# Altium schematic symbol library IDETEC.SchLib: 205 symbols (part 1 of 3)
Pins are listed as number, name and electrical type; pins without a type are passive.

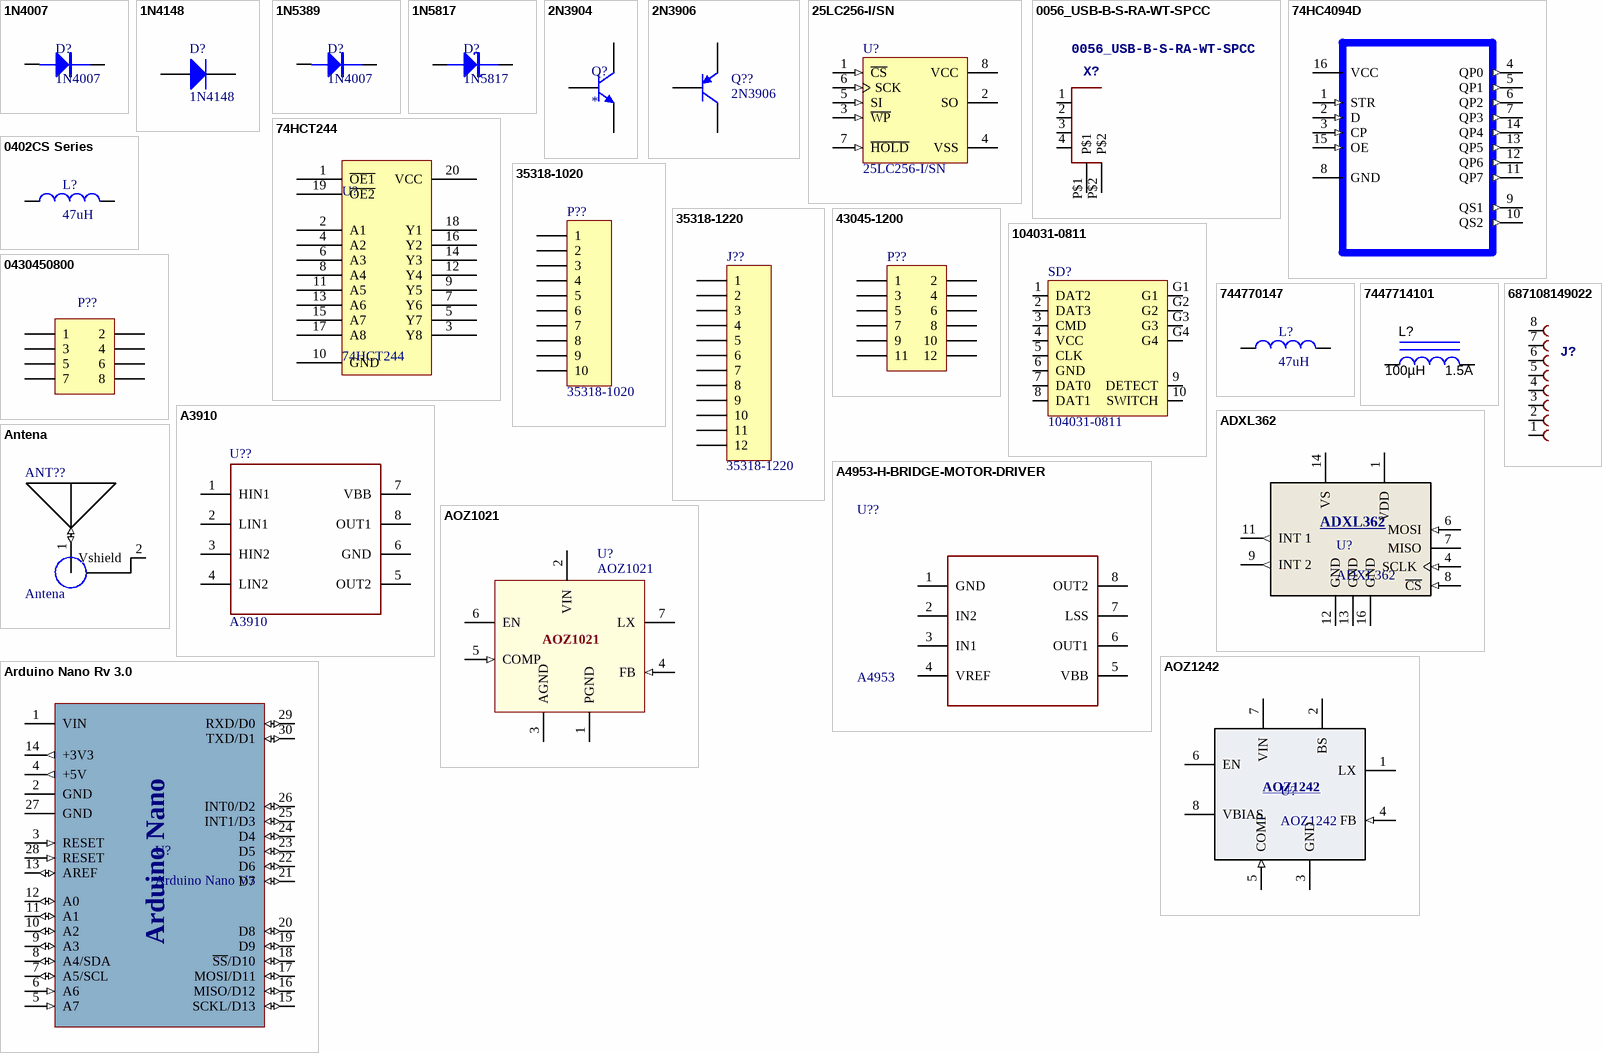
[diagram p0: symbols 1N4007 to Arduino Nano Rv 3.0]

## 1N4007
designator D?
footprint DIODE-0.3
footprint RES-0.5 inch (Axial Device, Thru-Hole; 2 Leads; 0.5 in Pin Spacing)
footprint R6, Axial (DIODE GEN PURP 1KV 6A R6)
pins: 1 A "Anode", 2 K "Cathode"

## 1N4148
designator D?
1.0 Ampere General Purpose Rectifier; Published: 8-Jun-2000; LatestRevisionDate: 17-Jul-2002; LatestRevisionNote: Re-released for DXP Platform.; DatasheetDocument: 1998; PackageDocument: Aug-1999; PackageReference: DO-41; Publisher: Altium Limited; Code_JEDEC: DO-204-AL; ComponentLink1Description: Manufacturer Link; ComponentLink2Description: Pinout Specification; ComponentLink2URL: http://www.fairchildsemi.com/ds/1N%2F1N4001.pdf
footprint LS4148_LS4448 (1N4148)
footprint RES0603 (Chip Resistor, 2-Leads, Body 2,90x1,10mm, IPC Medium Density)
pins: 1 A, 2 K

## 1N5389
designator D?, comment 1N4007
footprint DIODE-0.4A
pins: 1 A "Anode", 2 K "Cathode"

## 1N5817
designator D?
footprint Diode S4 (Molded Capacitor, 2-Leads, Body 3,20x1,60mm, IPC Medium Density)
pins: 1 K "Cathode", 2 A "Anode"

## 2N3904
designator Q?
footprint SOT-23-TT3_N (SOT23, 3-Leads, Body 2.9x1.3mm, Pitch 0.95mm, Lead Span 2.4mm, IPC Medium Density)
pins: 1 B, 2 E, 3 C

## 2N3906
designator Q??
Manufacturer: Micro Commercial Co; Manufacturer Part Number: 2N3906-AP; Transistor Type: PNP; Current - Collector (Ic) (Max): 200mA; Voltage - Collector Emitter Breakdown (Max): 40V; Vce Saturation (Max) @ Ib, Ic: 400mV @ 5mA, 50mA; DC Current Gain (hFE) (Min) @ Ic, Vce: 100 @ 10mA, 1V; Power - Max: 600mW; Frequency - Transition: 250MHz; Supplier 1: Digi-Key; RoHS: RoHS Compliant; Category: Discrete Semiconductor Products; Stock 1: 54000; Pricing 1: 2000=0.0306, 6000=0.0276, 10000=0.024, 50000=0.0192, 100000=0.018, 200000=0.01596 (USD); Packaging: Tape & Box (TB); Current - Collector Cutoff (Max): -; Mounting Type: Through Hole; Package / Case: TO-226-3, TO-92-3 (TO-226AA) Formed Leads; Supplier Device Package: TO-92; ComponentLink1URL: http://www.mccsemi.com/up_pdf/2N3906(TO-92).pdf; ComponentLink1Description: http://www.mccsemi.com/up_pdf/2N3906(TO-92).pdf; Supplier Part Number 1: 2N3906-APTB-ND
footprint SOT-23-TT3_N (SOT23, 3-Leads, Body 2.9x1.3mm, Pitch 0.95mm, Lead Span 2.4mm, IPC Medium Density)
pins: 1 B, 2 E, 3 C

## 25LC256-I/SN
designator U?
256K SPI Bus Serial EEPROM, 8-Pin SOIC, Industrial Temperature; Value: 579-25LC256-I/SN; Published: 29-Jan-2009; DatasheetVersion: revF, May-2007; PackageVersion: revAW, Oct-2008; PackageReference: SOIC-SN8; Publisher: Altium Limited; PackageDescription: 8-Lead Plastic Small Outline (SN) - Narrow, 3.90mm Body [SOIC]; Code_JEDEC: MS-012; Code_IPC: SOIC127P600-8; ComponentLink1Description: Manufacturer Link; ComponentLink1URL: http://www.microchip.com; ComponentLink2Description: Datasheet; ComponentLink2URL: http://ww1.microchip.com/downloads/en/DeviceDoc/21822F.pdf; ComponentLink3Description: Packaging Specification; ComponentLink3URL: http://ww1.microchip.com/downloads/en/PackagingSpec/00049AW.pdf
footprint SOIC-8 (SOIC, 8-Leads, Body 4,90x3,90mm, Pitch 1,27mm, IPC Medium Density)
pins: 1 ~{CS} (in), 2 SO (hiz), 3 ~{WP} (in), 4 VSS (power), 5 SI (in), 6 SCK (in), 7 ~{HOLD} (in), 8 VCC (power)

## 0056_USB-B-S-RA-WT-SPCC
designator X?
USB - B
footprint USB-B (USB TypeB)
pins: 1, 2, 3, 4, P$1, P$2

## 74HC4094D
designator U?  (value not drawn)
Ic Mos 74hc4094/So/74hc4094d Philips So; MF: NXP Semiconductors; Price: 0.36 USD; Package: SOIC-16 NXP Semiconductors; Availability: Good; MP: 74HC4094D; Value: *
footprint PDIP300-P16 (DIP, 16-Leads, Row Spacing 7.62mm, Pitch 2.54mm, Body 19.2x6.6mm)
pins: 1 STR (in), 2 D (in), 3 CP (in), 4 QP0 (out), 5 QP1 (out), 6 QP2 (out), 7 QP3 (out), 8 GND, 9 QS1 (out), 10 QS2 (out), 11 QP7 (out), 12 QP6 (out), 13 QP5 (out), 14 QP4 (out), 15 OE (in), 16 VCC (power)

## 74HCT244
designator U?
Transistores Darlington TRANSISTOR ARRAYS; 74HCT244: 74HCT244; Value: 74HCT244
footprint PwrDIP20 (DIP; 20 Leads; Row Spacing 7.62 mm; Pitch 2.54 mm)
pins: 1 ~{OE1} (power) "GND", 2 A1, 3 Y8, 4 A2, 5 Y7, 6 A3, 7 Y6, 8 A4, 9 Y5, 10 GND (power), 11 A5, 12 Y4, 13 A6, 14 Y3, 15 A7, 16 Y2, 17 A8, 18 Y1, 19 ~{OE2}, 20 VCC

## 0402CS Series
designator L?, comment 47uH
Inductor; Size 1.19×0.64×0.66mm, ±10, 5, 2% Tolerance, 1nH - 68nH, 1360 - 100mA; Value: 47uH
footprint MI0805K400R-10 - duplicate (Suppressors & Ferrite)
footprint CD54-181uH (Precision Wire Wound Inductor, 2-Leads, CD54-XXX)
footprint CDRH6D38T125N220
footprint 652-SDR0805-470KL (SDR0805-470KL)
footprint 74279224271 (INDUCTOR 270R)
footprint SRR1208-221KL
footprint NR6028T4R7M (Precision Wire Wound Inductor 4.7uH, 2-Leads, Body 6,10x6,10mm, IPC Medium Density)
pins: 1, 2

## 35318-1020
designator P??
Alojamientos de cables y cabecera MINIFIT HDER WO EARS 10CK; LatestRevisionDate: 17-Jul-2002; LatestRevisionNote: Re-released for DXP Platform.; Publisher: Altium Limited
footprint 35318-1020 (4.20mm Pitch Mini-Fit® Header, Dual Row, Right Angle, 12 Circuits, PA Polyamide (Nylon) 6/6 94V-2, White)
footprint 35318-0620 (4.20mm Pitch Mini-Fit® Header, Dual Row, Right Angle, 12 Circuits, PA Polyamide (Nylon) 6/6 94V-2, White)
pins: 1, 2, 3, 4, 5, 6, 7, 8, 9, 10

## 35318-1220
designator J??
4.20mm Pitch Mini-Fit® Header, Dual Row, Right Angle, 12 Circuits; LatestRevisionDate: 17-Jul-2002; LatestRevisionNote: Re-released for DXP Platform.; Publisher: Altium Limited
signal-integrity model Connector
footprint 35318-1220 (4.20mm Pitch Mini-Fit® Header, Dual Row, Right Angle, 12 Circuits, PA Polyamide (Nylon) 6/6 94V-2, White)
pins: 1, 2, 3, 4, 5, 6, 7, 8, 9, 10, 11, 12

## 43045-1200
designator P??  (value not drawn)
Alojamientos de cables y cabecera 12 CKT R/A HEADER; LatestRevisionDate: 17-Jul-2002; LatestRevisionNote: Re-released for DXP Platform.; Publisher: Altium Limited
footprint 43045-1200 (Alojamientos de cables y cabecera 12 CKT R/A HEADER)
pins: 1, 2, 3, 4, 5, 6, 7, 8, 9, 10, 11, 12

## 104031-0811
designator SD?
CONN MICRO SD CARD PUSH-PULL R/A; Manufacturer: Molex, LLC; Manufacturer Part Number: 1040310811; Card Type: Secure Digital - microSD™; Number of Positions: 10 (8 + 2); Connector Type: Connector; Insertion, Removal Method: Push In, Pull Out; 104031-0811: 104031-0811; Supplier 1: Digi-Key; Supplier Part Number 1: WM6357TR-ND; RoHS: RoHS Compliant; Category: Connectors, Interconnects; Stock 1: 10000; Pricing 1: 2000=0.93714, 4000=0.90482, 6000=0.85958, 10000=0.84019 (USD); Packaging: Tape & Reel (TR); Ejector Side: -; Mounting Type: Surface Mount, Right Angle; Features: -; Height Above Board: 0.056" (1.42mm); Mounting Feature: Normal, Standard - Top; Contact Finish: Gold; Contact Finish Thickness: 8µin (0.20µm); ComponentLink1URL: http://www.molex.com/pdm_docs/sd/1040310811_sd.pdf; ComponentLink1Description: http://www.molex.com/pdm_docs/sd/1040310811_sd.pdf
footprint 104031-0811
pins: 1 DAT2, 2 DAT3, 3 CMD, 4 VCC, 5 CLK, 6 GND, 7 DAT0, 8 DAT1, 9 DETECT, 10 SWITCH, G1, G2, G3, G4

## 0430450800
designator P??  (value not drawn)
CONN HEADER 8POS 3MM RT ANG TIN; Manufacturer: Molex, LLC; Manufacturer Part Number: 0430450800; Pitch - Mating: 0.118" (3.00mm); Number of Positions: 8; Number of Positions Loaded: All; Style: Board to Cable/Wire; Shrouding: Shrouded - 4 Wall; Contact Length - Post: 0.125" (3.18mm); Material Flammability Rating: UL94 V-0; Supplier 1: Digi-Key; RoHS: RoHS Compliant; Category: Connectors, Interconnects; Stock 1: 9629; Pricing 1: 1=2.09, 10=1.896, 100=1.6252, 500=1.35432, 1000=1.16085, 5000=1.02929 (USD); Packaging: Tray; Part Status: Active; Connector Type: Header; Contact Type: Male Pin; Number of Rows: 2; Row Spacing - Mating: 0.118" (3.00mm); Mounting Type: Through Hole, Right Angle; Termination: Solder; Fastening Type: Locking Ramp; Contact Length - Mating: -; Overall Contact Length: -; Insulation Height: 0.290" (7.37mm); Contact Shape: Square; Contact Finish - Mating: Tin; Contact Finish Thickness - Mating: 100µin (2.54µm); Contact Finish - Post: Tin; Contact Material: Brass; Insulation Material: Liquid Crystal Polymer (LCP), Glass Filled; Features: Board Lock; Operating Temperature: -; Ingress Protection: -; Insulation Color: Black; Current Rating: -; Voltage Rating: -; Mated Stacking Heights: -; Contact Finish Thickness - Post: -; Applications: General Purpose, Medical, Military, Telecommunications; ComponentLink1URL: http://www.molex.com/pdm_docs/sd/430450800_sd.pdf; ComponentLink1Description: http://www.molex.com/pdm_docs/sd/430450800_sd.pdf; Supplier 2: Digi-Key; Supplier Part Number 2: WM1816-ND
footprint 43045-0800 (Alojamientos de cables y cabecera 8 CKT R/A HEADER)
pins: 1, 2, 3, 4, 5, 6, 7, 8

## 744770147
designator L?, comment 47uH
Inductores fijos WE-PD 1280 47uH 2.7A .1Ohm; Value: 47uH
footprint 744770147 (Inductores fijos WE-PD 1280 47uH 2.7A .1Ohm)
pins: 1, 2

## 7447714101
designator L?  ValueDisplayed: 100µH  Value2: 1.5A  (hidden comment: 7447714101)
Inductor, Shielded Drum Core, Ferrite, 100 µH, 1.5 A, 0.165 ohm, SMD; Manufacturer: Wurth Elektronik; Value: 100uH; Ind_H: 100.0E-6; Imax_A: 1.5; Irms: 1.5A @ 40C rise; Isat: 1.75A @ 10% inductance drop; DCR_ohm: 0.165; AEC Category: Q200; SizeAreaWB_mm2: 144; SizeArea_mm2: 100; SizeX_mm: 10; SizeZ_mm: 5; SymbolVersion: 2008-07-23; CompType: Inductor; PartNumber: 7447714101; Value1: 0.165 ohm; Technology: Shielded Drum Core; MountType: SMT; Material: Ferrite; PackageReference: SMD; Published: 2008-06-26; Publisher: Texas Instruments; LatestRevisionDate: 2016-10-28; ComponentLink1Description: Datasheet link; ComponentLink1URL: http://katalog.we-online.de/kataloge/eisos/media/pdf/7447714101.pdf; RoHS: Y; Supplier 1: Digi-Key; Supplier Part Number 1: 732-2989-1-ND; AEC Qualified: ?; SizeY_mm: 10
signal-integrity model Inductor
simulation model Inductor
footprint WE-PD_1050
pins: 1, 2

## 687108149022
designator J?, comment WR-FPC 0.50mm SMT Horiz. Bot. Contact Hinge type WR-FPC 0.50mm 8 pins Hinge type SMT Horizontal Bottom Contact ;=>Code : Con_FPC_ZIF_0.50_6871xx149022_687108149022       Details see: http://katalog.we-online.de/em/datasheet/6871xx149022.pdf   Created 2014-10-08, Karrer Zheng 2014 (C) Wurth Elektronik  (value not drawn)
MF: Wurth Electronics; Price: None; Availability: Unavailable; Package: None; MP: 687108149022
footprint 687108149022
pins: 1 8, 2 7, 3 6, 4 5, 5 4, 6 3, 7 2, 8 1

## A3910
designator U??
Dual Half Bridge Motor Driver 500mA; Manufacturer: Allegro MicroSystems, LLC; Manufacturer Part Number: A3910EEETR-T; Motor Type - AC, DC: Brushed DC; Function: Driver - Fully Integrated, Control and Power Stage; Output Configuration: Half Bridge (2); Interface: Parallel; Voltage - Supply: 2.5 V ~ 5.5 V; Supplier 1: Digi-Key; Supplier Part Number 1: 620-1495-2-ND; RoHS: RoHS Compliant; Category: Integrated Circuits (ICs); Stock 1: 30000; Pricing 1: 3000=0.2465, 6000=0.2295, 15000=0.221, 30000=0.2125, 75000=0.2091, 150000=0.204 (USD); Motor Type - Stepper: -; Technology: Power MOSFET; Step Resolution: -; Applications: Battery Powered; Current - Output: 500mA; Voltage - Load: 2.5 V ~ 5.5 V; Operating Temperature: -40°C ~ 150°C (TJ); Mounting Type: Surface Mount; Package / Case: 8-UFDFN Exposed Pad; Supplier Device Package: 8-DFN (2x2); ComponentLink1URL: http://www.allegromicro.com/~/media/Files/Datasheets/A3910-Datasheet.pdf; ComponentLink1Description: http://www.allegromicro.com/~/media/Files/Datasheets/A3910-Datasheet.pdf
footprint DFN8 (DFN-8 2X2 mm)
pins: 1 HIN1, 2 LIN1, 3 HIN2, 4 LIN2, 5 OUT2, 6 GND, 7 VBB, 8 OUT1

## A4953-H-BRIDGE-MOTOR-DRIVER
designator U??, comment A4953
IC MOTOR DRIVER PAR 8SOIC; Manufacturer: Allegro MicroSystems, LLC; Manufacturer Part Number: A4953ELJTR-T; Motor Type - AC, DC: Brushed DC; Function: Driver - Fully Integrated, Control and Power Stage; Output Configuration: Half Bridge (2); Interface: Parallel; Current - Output: 2A; Voltage - Supply: 8 V ~ 40 V; Supplier 1: Digi-Key; Supplier Part Number 1: 620-1428-1-ND; RoHS: RoHS Compliant; Category: Integrated Circuits (ICs); Stock 1: 3966; Pricing 1: 1=1.85, 10=1.665, 100=1.3359, 500=1.098, 1000=0.9089 (USD); Motor Type - Stepper: -; Technology: DMOS; Step Resolution: -; Applications: General Purpose; Voltage - Load: 8 V ~ 40 V; Operating Temperature: -40°C ~ 150°C (TJ); Mounting Type: Surface Mount; Package / Case: 8-SOIC (0.154", 3.90mm Width) Exposed Pad; Supplier Device Package: 8-SOIC-EP; ComponentLink1URL: http://www.allegromicro.com/~/media/Files/Datasheets/A4952-3-Datasheet.pdf; ComponentLink1Description: http://www.allegromicro.com/~/media/Files/Datasheets/A4952-3-Datasheet.pdf
footprint A4953 (SOIC-8 With Termal Pad)
pins: 1 GND, 2 IN2, 3 IN1, 4 VREF, 5 VBB, 6 OUT1, 7 LSS, 8 OUT2

## ADXL362
designator U?
Micropower, 3-Axis, ±2 g/±4 g/±8 g  Digital Output MEMS Accelerometer; ComponentLink1URL: http://www.aosmd.com/pdfs/datasheet/aoz1021ai.pdf; ComponentLink2URL: http://www.digikey.com/product-detail/es/AOZ1021AI/785-1155-1-ND/1856090
footprint LGA-16
pins: 1 VDD, 2 NC hidden, 3 R hidden, 4 SCLK (in), 5 R hidden, 6 MOSI (in), 7 MISO, 8 ~{CS} (in), 9 INT 2 (out), 10 R (in) hidden, 11 INT 1 (out), 12 GND, 13 GND, 14 VS, 15 NC hidden, 16 GND

## Antena
designator ANT??
SMA  Ohm End Launch Jack Receptacle -  Round Contact; ComponentLink1URL: https://emersonconnectivity.com/; ComponentLink1Description: Manufacturer Link; ComponentLink2URL: https://emersonconnectivity.com/OA_MEDIA/specs/pi-142-0701-801.pdf; ComponentLink2Description: Datasheet; Mouser Part No.: 530-142-0701-801 / 530-142-0701-806; Digikey Part No.: J502-ND / J716-ND
footprint ANTENA GSM - duplicate (ANTENA GSM)
footprint Antena GSM (antena GSM)
footprint Conector SMA002-L (Antena RF)
footprint ANT-433-HESM (ANT 433MHz)
pins: 1 ANT (io), 2 Vshield

## AOZ1021
designator U?
3A Synchronous Buck Regulator; ComponentLink1URL: http://www.aosmd.com/pdfs/datasheet/aoz1021ai.pdf; ComponentLink2URL: http://www.digikey.com/product-detail/es/AOZ1021AI/785-1155-1-ND/1856090
footprint SO-8L (SOIC, 8-Leads, Body 4,90x3,90mm, Pitch 1,27mm, IPC Medium Density); pin to pad 7>7+8
pins: 1 PGND, 2 VIN, 3 AGND, 4 FB (in), 5 COMP (in), 6 EN (power), 7 LX

## AOZ1242
designator U?
IC REG BUCK ADJ 3A; ComponentLink1URL: http://www.aosmd.com/pdfs/datasheet/aoz1021ai.pdf; ComponentLink2URL: http://www.digikey.com/product-detail/es/AOZ1021AI/785-1155-1-ND/1856090
footprint SO-8L (SOIC, 8-Leads, Body 4,90x3,90mm, Pitch 1,27mm, IPC Medium Density)
pins: 1 LX, 2 BS, 3 GND, 4 FB (in), 5 COMP (in), 6 EN (power), 7 VIN, 8 VBIAS (power)

## Arduino Nano Rv 3.0
designator U?, comment Arduino Nano V3
footprint Arduino Nano V3.0 (Arduino Nano R 3.0)
pins: 1 VIN (power), 2 GND, 3 RESET (in), 4 +5V (out), 5 A7 (in), 6 A6 (in), 7 A5/SCL (io), 8 A4/SDA (io), 9 A3 (io), 10 A2 (io), 11 A1 (io), 12 A0 (io), 13 AREF (io), 14 +3V3 (out), 15 SCKL/D13 (io), 16 MISO/D12 (io), 17 MOSI/D11 (io), 18 ~{SS}/D10 (io), 19 D9 (io), 20 D8 (io), 21 D7 (io), 22 D6 (io), 23 D5 (io), 24 D4 (io), 25 INT1/D3 (io), 26 INT0/D2 (io), 27 GND, 28 RESET (in), 29 RXD/D0 (io), 30 TXD/D1 (io)
text: Arduino Nano

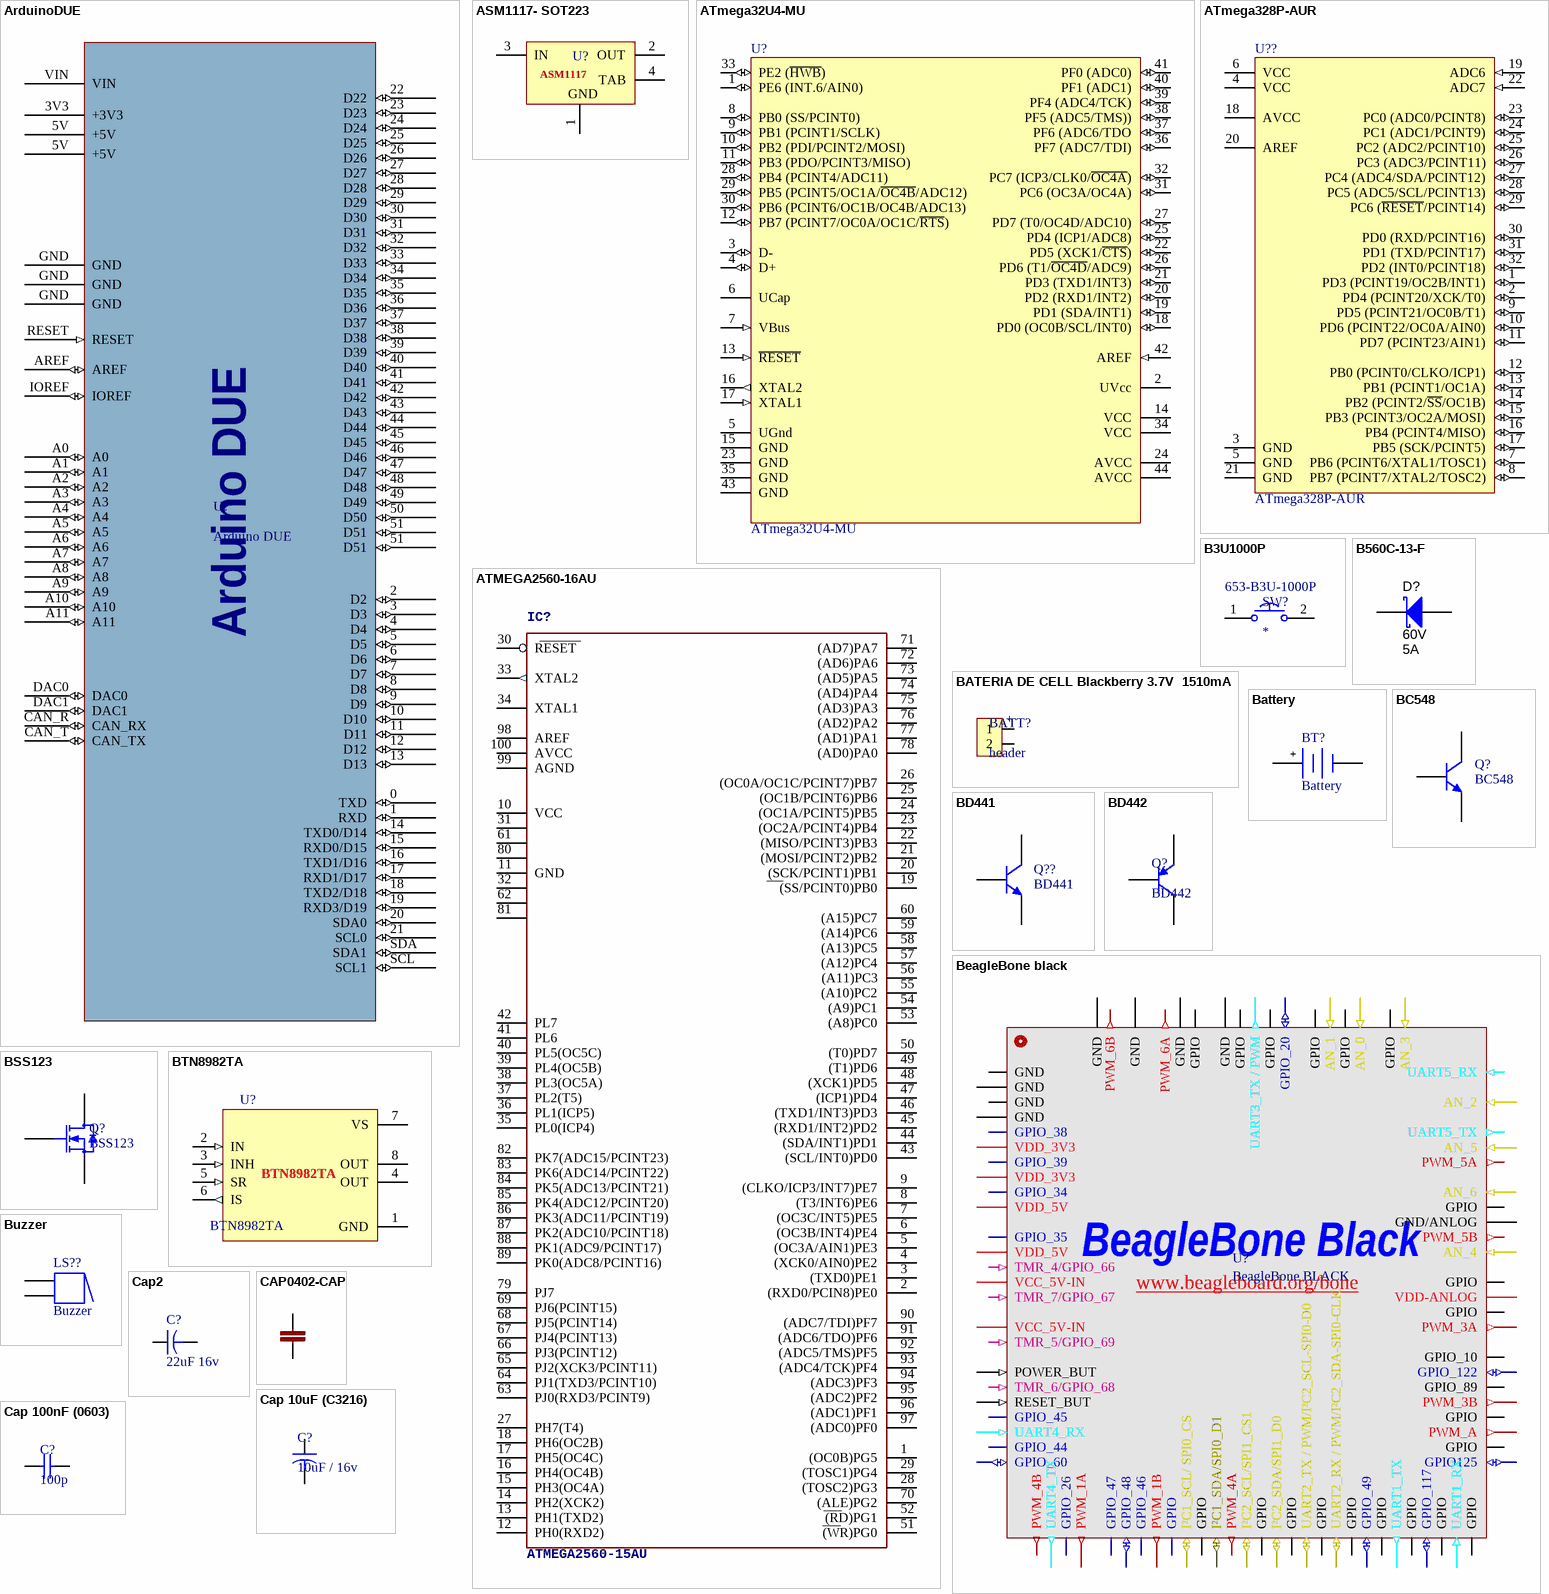
[diagram p1: symbols ArduinoDUE to Cap 100nF (0603)]

## ArduinoDUE
designator U?, comment Arduino DUE
footprint ArduinoDue-Mega (Tarjeta ArduinoDue/Mega)
pins: 0 TXD (io), 1 RXD (io), 2 D2 (io), 3 D3 (io), 3V3 +3V3 (power), 4 D4 (io), 5 D5 (io), 5V +5V (power), 5V +5V (power), 6 D6 (io), 7 D7 (io), 8 D8 (io), 9 D9 (io), 10 D10 (io), 11 D11 (io), 12 D12 (io), 13 D13 (io), 14 TXD0/D14 (io), 15 RXD0/D15 (io), 16 TXD1/D16 (io), 17 RXD1/D17 (io), 18 TXD2/D18 (io), 19 RXD3/D19 (io), 20 SDA0 (io), 21 SCL0 (io), 22 D22 (io), 23 D23 (io), 24 D24 (io), 25 D25 (io), 26 D26 (io), 27 D27 (io), 28 D28 (io), 29 D29 (io), 30 D30 (io), 31 D31 (io), 32 D32 (io), 33 D33 (io), 34 D34 (io), 35 D35 (io), 36 D36 (io), 37 D37 (io), 38 D38 (io), 39 D39 (io), 40 D40 (io), 41 D41 (io), 42 D42 (io), 43 D43 (io), 44 D44 (io), 45 D45 (io), 46 D46 (io), 47 D47 (io), 48 D48 (io), 49 D49 (io), 50 D50 (io), 51 D51 (io), 51 D51 (io), A0 (io), A1 (io), A2 (io), A3 (io), A4 (io), A5 (io), A6 (io), A7 (io), A8 (io), A9 (io), A10 (io), A11 (io), AREF (io), CAN_R CAN_RX (io), CAN_T CAN_TX (io), DAC0 (io), DAC1 (io), GND, GND, GND, IOREF (io), RESET (in), SCL SCL1 (io), SDA SDA1 (io), VIN (power)

## ASM1117- SOT223
designator U?, comment ASM1117  (value not drawn)
l7805 SOT223
footprint SOT230P700X180-4N (SOT223, 4-Leads, Body 6,50x7,00mm (avg), Pitch 2,30mm, IPC Medium Density)
pins: 1 GND (power), 2 OUT (power), 3 IN (power), 4 TAB

## ATmega32U4-MU
designator U?
8-bit AVR Microcontroller, 2.7-5.5V, 32KB Flash, 2.5KB EEPROM, 1KB SRAM, USB Controller, 44-pin QFN, Industrial Grade (-40°C to 85°C); Published: 1-Apr-2010; DatasheetVersion: revD, Jan-2009; PackageVersion: revF, Jul-2007; PackageReference: 44PW; Publisher: Altium Limited; PackageDescription: 44-Pin Quad Flat No-Lead Package, 7 x 7 mm Body, 0.5 mm Pitch (QFN); Supplier 1: Digi-Key; Supplier Part Number 1: ATMEGA32U4-MU-ND; Supplier 2: Mouser; Supplier Part Number 2: 556-ATMEGA32U4-MU; Code_JEDEC: MO-220-VKKD-1; ComponentLink1Description: Manufacturer Link; ComponentLink1URL: http://www.atmel.com/products/avr/default.asp?; ComponentLink2Description: ATmega16U4/32U4 Datasheet; ComponentLink2URL: http://www.atmel.com/dyn/resources/prod_documents/doc7766.pdf; ComponentLink3Description: ATmega16U4 ATmega32U4 Summary; ComponentLink3URL: http://www.atmel.com/dyn/resources/prod_documents/7766S.pdf; ComponentLink4Description: Atmel.com Home; ComponentLink4URL: http://www.atmel.com
footprint TQFP44-PAD
pins: 1 PE6 (INT.6/AIN0) (io), 2 UVcc (power), 3 D- (io), 4 D+ (io), 5 UGnd (power), 6 UCap, 7 VBus (in), 8 PB0 (SS/PCINT0) (io), 9 PB1 (PCINT1/SCLK) (io), 10 PB2 (PDI/PCINT2/MOSI) (io), 11 PB3 (PDO/PCINT3/MISO) (io), 12 PB7 (PCINT7/OC0A/OC1C/~{RTS}) (io), 13 ~{RESET} (in), 14 VCC (power), 15 GND (power), 16 XTAL2 (out), 17 XTAL1 (in), 18 PD0 (OC0B/SCL/INT0) (io), 19 PD1 (SDA/INT1) (io), 20 PD2 (RXD1/INT2) (io), 21 PD3 (TXD1/INT3) (io), 22 PD5 (XCK1/~{CTS}) (io), 23 GND (power), 24 AVCC (power), 25 PD4 (ICP1/ADC8) (io), 26 PD6 (T1/~{OC4D}/ADC9) (io), 27 PD7 (T0/OC4D/ADC10) (io), 28 PB4 (PCINT4/ADC11) (io), 29 PB5 (PCINT5/OC1A/~{OC4B}/ADC12) (io), 30 PB6 (PCINT6/OC1B/OC4B/ADC13) (io), 31 PC6 (OC3A/OC4A) (io), 32 PC7 (ICP3/CLK0/~{OC4A}) (io), 33 PE2 (~{HWB}) (io), 34 VCC (power), 35 GND (power), 36 PF7 (ADC7/TDI) (io), 37 PF6 (ADC6/TDO (io), 38 PF5 (ADC5/TMS)) (io), 39 PF4 (ADC4/TCK) (io), 40 PF1 (ADC1) (io), 41 PF0 (ADC0) (io), 42 AREF (in), 43 GND (power), 44 AVCC (power)

## ATmega328P-AUR
designator U??
8-bit AVR Microcontroller, 32KB Flash, 1KB EEPROM, 2KB SRAM, 32-pin TQFP, Industrial Grade (-40°C to 85°C); Published: 1-Apr-2010; DatasheetVersion: revA, Jan-2010; PackageVersion: revB, Oct-2001; PackageReference: 32A; Publisher: Altium Limited; PackageDescription: 32-Lead, 7x7x1.0 mm Body, 0.8mm Lead Pitch, Thin Profile Plastic Quad Flat Package (TQFP); Supplier 1: Digi-Key; Supplier Part Number 1: ATMEGA328P-AUR-ND; Supplier 2: Mouser; Supplier Part Number 2: 556-ATMEGA328P-AUR; Code_JEDEC: MS-026-ABA; ComponentLink1Description: Manufacturer Link; ComponentLink1URL: http://www.atmel.com/products/avr/default.asp?; ComponentLink2Description: ATmega48A/48PA/88A/88PA/168A/168PA/328/328P Datasheet; ComponentLink2URL: http://www.atmel.com/dyn/resources/prod_documents/8271.pdf; ComponentLink3Description: ATmega48A/48PA/88A/88PA/168A/168PA/328/328P Summary; ComponentLink3URL: http://www.atmel.com/dyn/resources/prod_documents/8271S.pdf; ComponentLink4Description: Atmel.com Home; ComponentLink4URL: http://www.atmel.com
footprint TQFP-32 (32-Pin Thin Quad Flat Pack 0.8 mm Pitch, IPC Medium Density)
pins: 1 PD3 (PCINT19/OC2B/INT1) (io), 2 PD4 (PCINT20/XCK/T0) (io), 3 GND (power), 4 VCC (power), 5 GND (power), 6 VCC (power), 7 PB6 (PCINT6/XTAL1/TOSC1) (io), 8 PB7 (PCINT7/XTAL2/TOSC2) (io), 9 PD5 (PCINT21/OC0B/T1) (io), 10 PD6 (PCINT22/OC0A/AIN0) (io), 11 PD7 (PCINT23/AIN1) (io), 12 PB0 (PCINT0/CLKO/ICP1) (io), 13 PB1 (PCINT1/OC1A) (io), 14 PB2 (PCINT2/~{SS}/OC1B) (io), 15 PB3 (PCINT3/OC2A/MOSI) (io), 16 PB4 (PCINT4/MISO) (io), 17 PB5 (SCK/PCINT5) (io), 18 AVCC (power), 19 ADC6 (in), 20 AREF, 21 GND (power), 22 ADC7 (in), 23 PC0 (ADC0/PCINT8) (io), 24 PC1 (ADC1/PCINT9) (io), 25 PC2 (ADC2/PCINT10) (io), 26 PC3 (ADC3/PCINT11) (io), 27 PC4 (ADC4/SDA/PCINT12) (io), 28 PC5 (ADC5/SCL/PCINT13) (io), 29 PC6 (~{RESET}/PCINT14) (io), 30 PD0 (RXD/PCINT16) (io), 31 PD1 (TXD/PCINT17) (io), 32 PD2 (INT0/PCINT18) (io)

## ATMEGA2560-16AU
designator IC?, comment ATMEGA2560-15AU
8-bit Microcontroller with 256K Bytes In-System Programmable Flash - ATMEGA2560-16AU
footprint TQFP100
pins: 1 (OC0B)PG5, 2 (RXD0/PCIN8)PE0, 3 (TXD0)PE1, 4 (XCK0/AIN0)PE2, 5 (OC3A/AIN1)PE3, 6 (OC3B/INT4)PE4, 7 (OC3C/INT5)PE5, 8 (T3/INT6)PE6, 9 (CLKO/ICP3/INT7)PE7, 10 VCC (power), 11 GND (power), 12 PH0(RXD2), 13 PH1(TXD2), 14 PH2(XCK2), 15 PH3(OC4A), 16 PH4(OC4B), 17 PH5(OC4C), 18 PH6(OC2B), 19 (SS/PCINT0)PB0, 20 (SCK/PCINT1)PB1, 21 (MOSI/PCINT2)PB2, 22 (MISO/PCINT3)PB3, 23 (OC2A/PCINT4)PB4, 24 (OC1A/PCINT5)PB5, 25 (OC1B/PCINT6)PB6, 26 (OC0A/OC1C/PCINT7)PB7, 27 PH7(T4), 28 (TOSC2)PG3, 29 (TOSC1)PG4, 30 RESET, 31 VCC1 (power), 32 GND1 (power), 33 XTAL2 (out), 34 XTAL1, 35 PL0(ICP4), 36 PL1(ICP5), 37 PL2(T5), 38 PL3(OC5A), 39 PL4(OC5B), 40 PL5(OC5C), 41 PL6, 42 PL7, 43 (SCL/INT0)PD0, 44 (SDA/INT1)PD1, 45 (RXD1/INT2)PD2, 46 (TXD1/INT3)PD3, 47 (ICP1)PD4, 48 (XCK1)PD5, 49 (T1)PD6, 50 (T0)PD7, 51 (WR)PG0, 52 (RD)PG1, 53 (A8)PC0, 54 (A9)PC1, 55 (A10)PC2, 56 (A11)PC3, 57 (A12)PC4, 58 (A13)PC5, 59 (A14)PC6, 60 (A15)PC7, 61 VCC2 (power), 62 GND2 (power), 63 PJ0(RXD3/PCINT9), 64 PJ1(TXD3/PCINT10), 65 PJ2(XCK3/PCINT11), 66 PJ3(PCINT12), 67 PJ4(PCINT13), 68 PJ5(PCINT14), 69 PJ6(PCINT15), 70 (ALE)PG2, 71 (AD7)PA7, 72 (AD6)PA6, 73 (AD5)PA5, 74 (AD4)PA4, 75 (AD3)PA3, 76 (AD2)PA2, 77 (AD1)PA1, 78 (AD0)PA0, 79 PJ7, 80 VCC3 (power), 81 GND3 (power), 82 PK7(ADC15/PCINT23), 83 PK6(ADC14/PCINT22), 84 PK5(ADC13/PCINT21), 85 PK4(ADC12/PCINT20), 86 PK3(ADC11/PCINT19), 87 PK2(ADC10/PCINT18), 88 PK1(ADC9/PCINT17), 89 PK0(ADC8/PCINT16), 90 (ADC7/TDI)PF7, 91 (ADC6/TDO)PF6, 92 (ADC5/TMS)PF5, 93 (ADC4/TCK)PF4, 94 (ADC3)PF3, 95 (ADC2)PF2, 96 (ADC1)PF1, 97 (ADC0)PF0, 98 AREF, 99 AGND (power), 100 AVCC (power)

## B3U1000P
designator SW?  Supplier Part Number 2: 653-B3U-1000P
Ultra-small Tactile Switch; Supplier 1: Newark; Supplier 2: Mouser; Supplier 3: Digi-Key; Supplier Part Number 1: 30M2152; Supplier Part Number 3: SW1020CT-ND
footprint SW_MOUSER
pins: 1, 2

## B560C-13-F
designator D?, comment value 60V  Value1: 5A  (hidden comment: PDS560-13)
Diode, Schottky, 60 V, 5 A, SMC; Manufacturer: Diodes Inc.; U/M: EA; Vf_V: 0.7; Value2: 0.7V; Io_A: 5; Vr_V: 60; TJmax_C: 125; RJC_CperW: 10; AEC Category: Q101; SizeAreaWB_mm2: 83.2686; SizeArea_mm2: 50.5686; SizeX_mm: 8.13; SizeY_mm: 6.22; SizeZ_mm: 2.6; CompType: Diode; SymbolVersion: 2008-12-08; PartNumber: PDS560-13; PackageReference: SMC; MountType: SMT; Type: Schottky; RoHS: Y; Published: 2008-06-26; Publisher: Texas Instruments; LatestRevisionDate: 2016-10-18; ComponentLink1Description: Datasheet link; ComponentLink1URL: http://www.diodes.com/datasheets/ds13012.pdf; Supplier 1: Digi-Key; Supplier Part Number 1: PDS560-13; Supplier 2: Mouser; Supplier Part Number 2: 621-B560C-F; Supplier 3: Farnell; Supplier Part Number 3: 1858602; AEC Qualified: ?
footprint SMC
pins: 1 K, 2 A

## BATERIA DE CELL Blackberry 3.7V  1510mA
designator BATT?, comment header
footprint battery  blackberry (bateria blackberry C-52)
pins: 1, 2
text: +

## Battery
designator BT?
Multicell Battery; Published: 24-Mar-1999; LatestRevisionDate: 17-Jul-2002; LatestRevisionNote: Re-released for DXP Platform.; PackageReference: BAT-2; Publisher: Altium Limited
footprint battery  blackberry (bateria blackberry C-52)
footprint S2B-PH-SM4-TB (CONN HEADER PH SIDE 2POS 2MM SMD)
footprint CNN 2mm (Conector 2.00mm bateria)
footprint THM106 COIN CELL HOLDER (Keystone 20mm Lithium Coin Cell Battery Holders)
footprint XT60
pins: 1 +, 2 -

## BC548
designator Q?
TRANS NPN 30V 0.1A TO-92; Manufacturer: Fairchild Semiconductor; Manufacturer Part Number: BC548BTA; Current - Collector (Ic) (Max): 100mA; Vce Saturation (Max) @ Ib, Ic: 600mV @ 5mA, 100mA; Current - Collector Cutoff (Max): 15nA (ICBO); DC Current Gain (hFE) (Min) @ Ic, Vce: 200 @ 2mA, 5V; Power - Max: 500mW; Frequency - Transition: 300MHz; Supplier 1: Digi-Key; Supplier Part Number 1: BC548BTATB-ND; RoHS: RoHS Compliant; Category: Discrete Semiconductor Products; Stock 1: 2000; Pricing 1: 2000=0.03519, 6000=0.0306, 10000=0.02601, 50000=0.02295, 100000=0.02035, 200000=0.01989 (USD); Packaging: Tape & Box (TB); Transistor Type: NPN; Voltage - Collector Emitter Breakdown (Max): 30V; Mounting Type: Through Hole; Package / Case: TO-226-3, TO-92-3 (TO-226AA) Formed Leads; Supplier Device Package: TO-92-3; ComponentLink1URL: http://www.fairchildsemi.com/datasheets/BC/BC546.pdf; ComponentLink1Description: http://www.fairchildsemi.com/datasheets/BC/BC546.pdf
footprint MPF102 (TO, Flat Index; 3 In-Line, Axial Leads; Body Dia. 4.5mm; Leads 0.51 x 0.48 mm (max))
pins: 1 C, 2 B, 3 E

## BD441
designator Q??
TRANS NPN 80V 4A TO-225AA; Manufacturer: ON Semiconductor; Manufacturer Part Number: BD441G; Vce Saturation (Max) @ Ib, Ic: 800mV @ 300mA, 3A; Current - Collector Cutoff (Max): 100µA (ICBO); DC Current Gain (hFE) (Min) @ Ic, Vce: 40 @ 500mA, 1V; Power - Max: 36W; Frequency - Transition: 3MHz; Supplier 1: Digi-Key; Supplier Part Number 1: BD441GOS-ND; RoHS: RoHS Compliant; Category: Discrete Semiconductor Products; Stock 1: 1037; Pricing 1: 1=0.64, 10=0.552, 100=0.4122, 500=0.32384, 1000=0.25024 (USD); Packaging: Bulk; Transistor Type: NPN; Current - Collector (Ic) (Max): 4A; Voltage - Collector Emitter Breakdown (Max): 80V; Mounting Type: Through Hole; Package / Case: TO-225AA, TO-126-3; Supplier Device Package: TO-225AA; ComponentLink1URL: http://www.onsemi.com/pub_link/Collateral/BD437-D.PDF; ComponentLink1Description: http://www.onsemi.com/pub_link/Collateral/BD437-D.PDF
footprint TO126AV
pins: B, C, E

## BD442
designator Q?
TRANS PNP 80V 4A SOT-32; Manufacturer: Fairchild Semiconductor; Manufacturer Part Number: BD442S; Vce Saturation (Max) @ Ib, Ic: 800mV @ 200mA, 2A; Current - Collector Cutoff (Max): 100µA; DC Current Gain (hFE) (Min) @ Ic, Vce: 40 @ 500mA, 1V; Power - Max: 36W; Frequency - Transition: 3MHz; Supplier 1: Digi-Key; RoHS: RoHS Compliant; Category: Discrete Semiconductor Products; Stock 1: 0; Pricing 1: 2000=0 (USD); Packaging: Bulk; Transistor Type: PNP; Current - Collector (Ic) (Max): 4A; Voltage - Collector Emitter Breakdown (Max): 80V; Mounting Type: Through Hole; Package / Case: TO-225AA, TO-126-3; Supplier Device Package: TO-126; ComponentLink1URL: http://www.fairchildsemi.com/datasheets/BD/BD440.pdf; ComponentLink1Description: http://www.fairchildsemi.com/datasheets/BD/BD440.pdf; Supplier Part Number 1: BD442S-ND
footprint TO126AV
pins: B, C, E

## BeagleBone black
designator U?, comment BeagleBone BLACK
Modulo con sistema enbebido
footprint Beaglebone Black (Module beaglebone black)
pins: 8_1 GND (power), 8_2 GND (power), 8_3 GPIO_38 (io), 8_4 GPIO_39 (io), 8_5 GPIO_34 (io), 8_6 GPIO_35 (io), 8_7 TMR_4/GPIO_66 (in), 8_8 TMR_7/GPIO_67 (in), 8_9 TMR_5/GPIO_69 (in), 8_10 TMR_6/GPIO_68 (in), 8_11 GPIO_45 (io), 8_12 GPIO_44 (io), 8_13 PWM_4B (out), 8_14 GPIO_26 (io), 8_15 GPIO_47 (io), 8_16 GPIO_46 (io), 8_17 GPIO (io), 8_18 GPIO, 8_19 PWM_4A (out), 8_20 GPIO (io), 8_21 GPIO (io), 8_22 GPIO (io), 8_23 GPIO, 8_24 GPIO, 8_25 GPIO, 8_26 GPIO, 8_27 GPIO, 8_28 GPIO, 8_29 GPIO, 8_30 GPIO_89, 8_31 GPIO_10, 8_32 GPIO, 8_33 GPIO, 8_34 PWM_5B (out), 8_35 GPIO, 8_36 PWM_5A (out), 8_37 UART5_TX (out), 8_38 UART5_RX (in), 8_39 GPIO, 8_40 GPIO, 8_41 GPIO, 8_42 GPIO, 8_43 GPIO, 8_44 GPIO, 8_45 PWM_6A (out), 8_46 PWM_6B (out), 9_1 GND (power), 9_2 GND (power), 9_3 VDD_3V3 (power), 9_4 VDD_3V3 (power), 9_5 VDD_5V (power), 9_6 VDD_5V (power), 9_7 VCC_5V-IN (power), 9_8 VCC_5V-IN (power), 9_9 POWER_BUT (in), 9_10 RESET_BUT (in), 9_11 UART4_RX  (in), 9_12 GPIO_60 (io), 9_13 UART4_TX (out), 9_14 PWM_1A (out), 9_15 GPIO_48 (io), 9_16 PWM_1B (out), 9_17 I²C1_SCL/ SPI0_CS (io), 9_18 I²C1_SDA/SPI0_D1 (io), 9_19 I²C2_SCL/SPI1_CS1 (io), 9_20 I²C2_SDA/SPI1_D0 (io), 9_21 UART2_TX / PWM/I²C2_SCL-SPI0-D0 (io), 9_22 UART2_RX / PWM/I²C2_SDA-SPI0-CLK (io), 9_23 GPIO_49 (io), 9_24 UART1_TX (out), 9_25 GPIO_117 (io), 9_26 UART1_RX  (in), 9_27 GPIO125 (io), 9_28 PWM_A (out), 9_29 PWM_3B (out), 9_30 GPIO_122 (io), 9_31 PWM_3A (out), 9_32 VDD-ANLOG (power), 9_33 AN_4 (in), 9_34 GND/ANLOG (power), 9_35 AN_6 (in), 9_36 AN_5 (in), 9_37 AN_2 (in), 9_38 AN_3 (in), 9_39 AN_0 (in), 9_40 AN_1 (in), 9_41 GPIO_20 (io), 9_42 UART3_TX / PWM (out), 9_43 GND (power), 9_44 GND (power), 9_45 GND (power), 9_46 GND (power)
text: BeagleBone Black; www.beagleboard.org/bone

## BSS123
designator Q?
N-Channel MOSFET; Published: 8-Jun-2000; LatestRevisionDate: 17-Jul-2002; LatestRevisionNote: Re-released for DXP Platform.; PackageVersion: 1995/1996; PackageReference: E3; Publisher: Altium Limited
simulation model NMOS (MOSFET-N)
footprint SOT-23-TT3_N (SOT23, 3-Leads, Body 2.9x1.3mm, Pitch 0.95mm, Lead Span 2.4mm, IPC Medium Density)
pins: 1 G, 2 S, 3 D

## BTN8982TA
designator U?
BTS 7970B; Manufacturer: Infineon Technologies; Qualification: AECQ1000; Supplier 1: Mouser; Manufacturer Part Number: BTN8982TA; RoHS: RoHS Compliant; Category: Motor / Motion / Ignition Controllers & Drivers; Stock 1: 1880; Pricing 1: 1=5.50, 10=4.67, 100=4.05, 250=3.84, 500=3.45, 1000=2.91, 2000=2.76 (USD); Package / Case: TO-263-7; Packaging: Cut Tape; Series: BTN8982; Brand: Infineon Technologies; Mounting Style: SMD/SMT; Moisture Sensitive: Yes; Standard Pack Qty: 1000; RoHS - Mouser: Y; Minimum Order Quantity: 1; Reeling: True; ComponentLink1URL: http://www.mouser.com/ds/2/196/Infineon-BTN8982TA-DS-v01_00-EN-786008.pdf; ComponentLink1Description: http://www.mouser.com/ds/2/196/Infineon-BTN8982TA-DS-v01_00-EN-786008.pdf; Supplier Part Number 1: 726-BTN8982TA
footprint TO-263-7 (Package     TO-263-7)
pins: 1 GND, 2 IN (in), 3 INH (in), 4 OUT, 5 SR (in), 6 IS (out), 7 VS, 8 OUT

## Buzzer
designator LS??
Magnetic Transducer Buzzer; Published: 24-Mar-1999; LatestRevisionDate: 17-Dec-2003; LatestRevisionNote: Schematic revised, PCB Footprint replaced.; DatasheetVersion: 17-Dec-2003; PackageReference: ABSM-1574; Publisher: Altium Limited; ComponentLink1Description: Manufacturer Link; ComponentLink1URL: http://www.megastar.com/linecard/buzzmode/index.php
footprint BUZZER 5V
footprint Buzzer 3V 9mm
pins: 1, 2
1 alternate drawing of the same symbol

## Cap2
designator C?, comment 22uF 16v
Capacitor; Value: 10uF 16v; Published: 23-Sep-2002; PackageReference: CAPR5-4X5; Publisher: Altium Limited
footprint CAP0805,2012 (Capacitores cerámicos de capas múltiples (MLCC) - SMD/SMT X5R 0805 20%)
simulation model CAP (Capacitor)
signal-integrity model Cap
pins: 1, 2

## CAP0402-CAP
designator C?, comment 33nF  (value not drawn)
<b>Capacitor</b> / Standard 0603 ceramic capacitor, and 0.1" leaded capacitor.
footprint CAP 0402 (Chip Capacitor, 2-Leads, Body 1,05x0,55mm, IPC Medium Density)
pins: 1, 2

## Cap 10uF (C3216)
designator C?, comment 10uF / 16v
Capacitor; Value: 10uF / 16v
footprint C3216X5R1C106K (CAP 10uF 16v)
footprint Cap-100UF (capacitor de 100uF / 16V)
footprint Cap 4.7uF 50v (capacitor 4.7uF 50v)
footprint C-470uF/35V
footprint Cap Electrolytic Case C7 (CAP ALUM 2200UF 20% 100V SNAP)
footprint TAJA106K016TNJ (1206)
footprint D8 Package (125degC 6.3 x 7.7mm SMD)
footprint TAJB107M006RNJ (Capacitor, SM Tantalum; Body 3.5 x 2.8 mm (LxW typ))
pins: 1, 2

## Cap 100nF (0603)
designator C?, comment 100p
Value: 100p
footprint C0603C104K5RACTU (100nF)
footprint CAP 0402 (Chip Capacitor, 2-Leads, Body 1,05x0,55mm, IPC Medium Density)
footprint CAP 104 (capacitor de 100nF)
footprint C3216X5R1C106K (CAP 10uF 16v)
footprint Cap 820pf
footprint C1210
pins: 1, 2

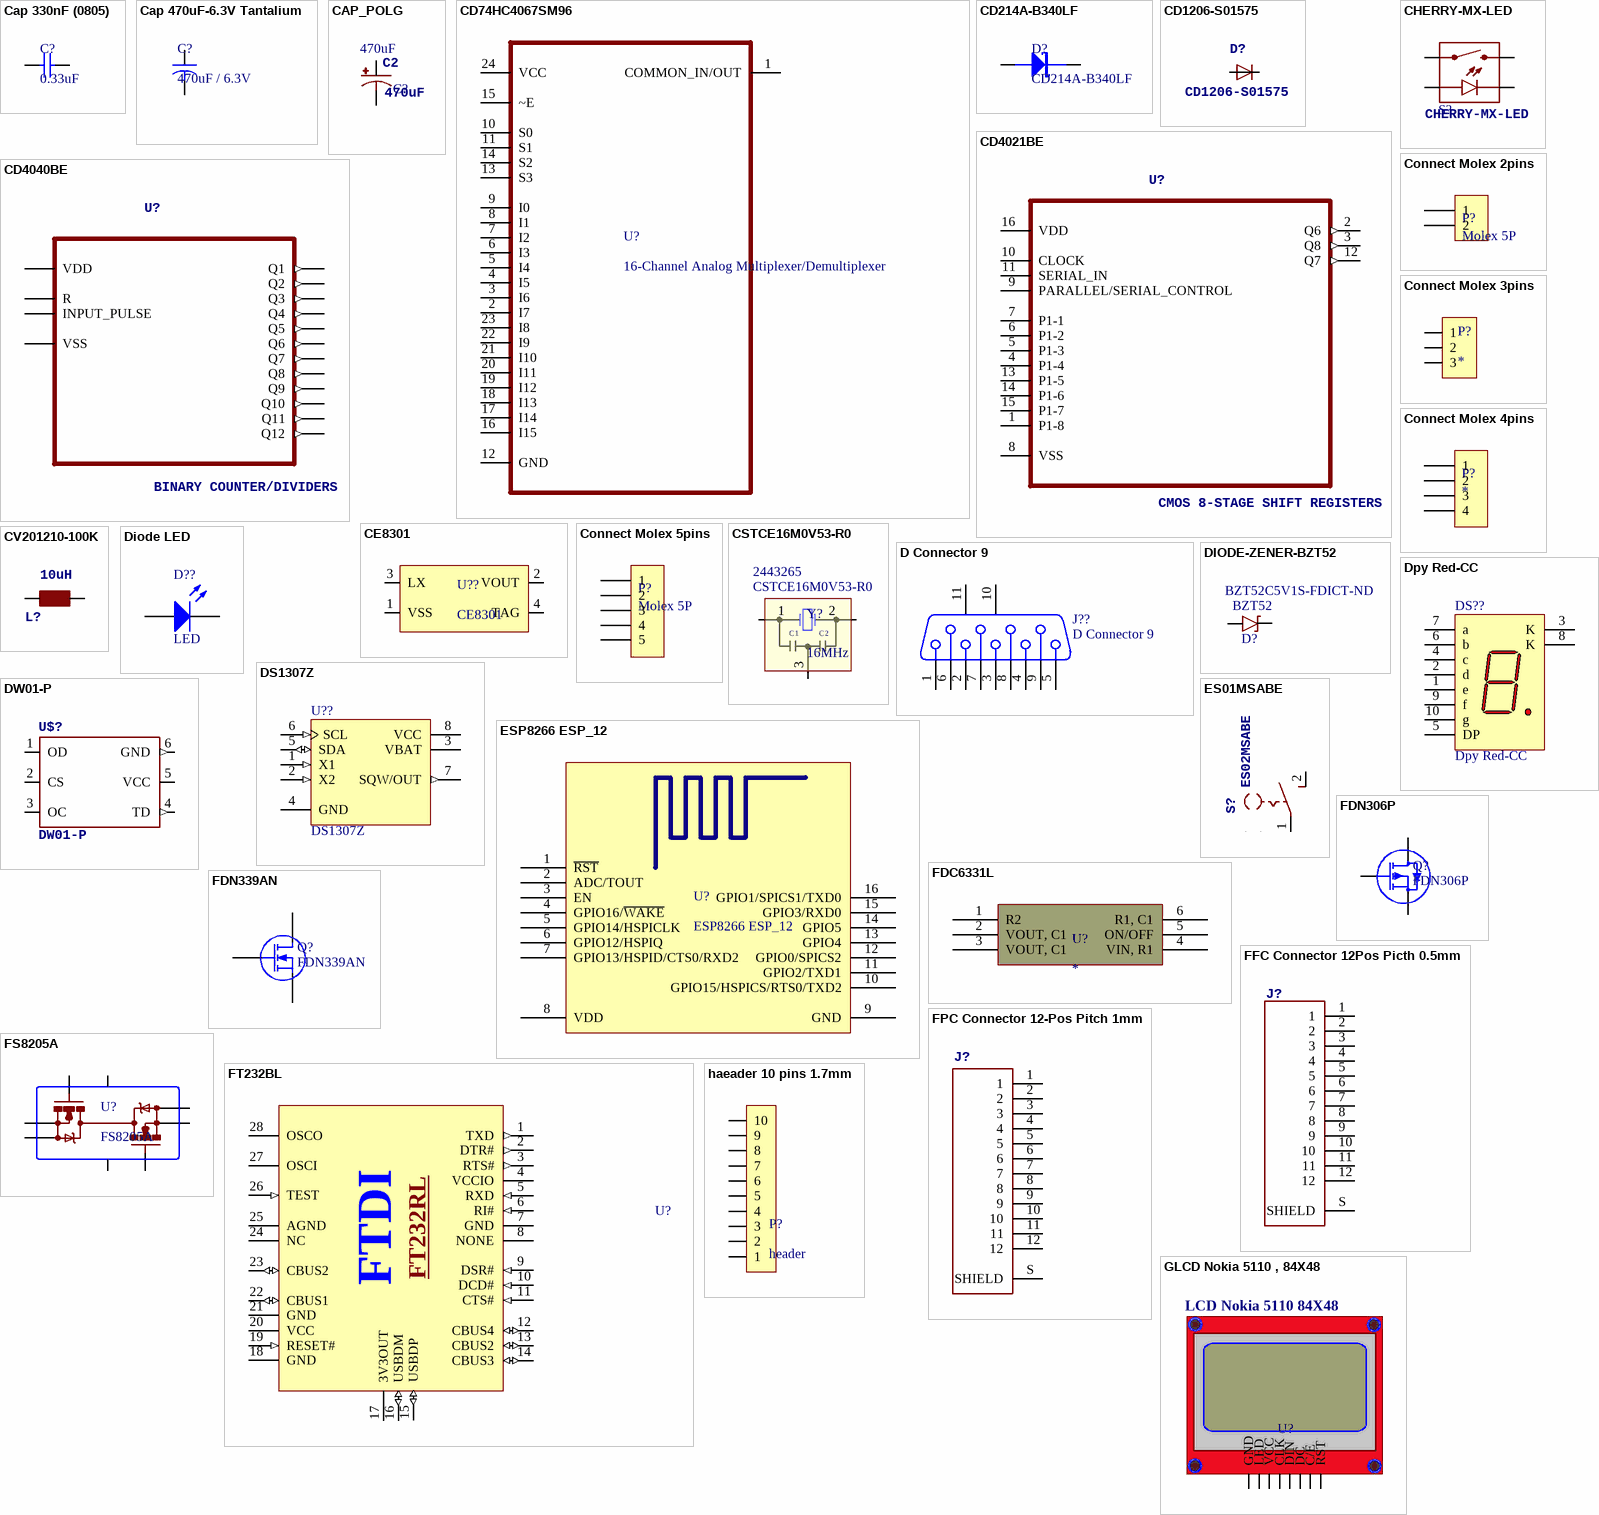
[diagram p2: symbols Cap 330nF (0805) to haeader 10 pins 1.7mm]

## Cap 330nF (0805)
designator C?, comment 0.33uF
C2012X7R1H334K125AA; Value: 0.33uF
footprint CAP0805 (Chip Capacitor, 2-Leads, Body 2,10x1,35mm, IPC Medium Density)
pins: 1, 2

## Cap 470uF-6.3V Tantalium
designator C?, comment 470uF / 6.3V
Capacitor; Value: 470uF / 6.3V
footprint 7343–31 (Capacitor Tantalium, Case D 7343–31, 2-Leads, Body 7,45x4,45mm, IPC Medium Density)
pins: 1, 2

## CAP_POLG
designator C?, comment 470uF  >NAME: C2
<b>Capacitor Polarized</b> / These are standard SMD and PTH capacitors. Normally 10uF, 47uF, and 100uF in electrolytic and tantalum varieties. Always verify the external diameter of the through hole cap, it varies with capacity, voltage, and manufacturer. The EIA devices should be standard.; >VALUE: 470uF
footprint PANASONIC_G
pins: +, -

## CD74HC4067SM96
designator U?, comment 16-Channel Analog Multiplexer/Demultiplexer
MF: Texas Instruments; MP: CD74HC4067SM96; Package: SSOP-24 Texas Instruments; Availability: Good; Price: 0.46 USD
footprint SOP65P780X200-24N
pins: 1 COMMON_IN/OUT, 2 I7, 3 I6, 4 I5, 5 I4, 6 I3, 7 I2, 8 I1, 9 I0, 10 S0, 11 S1, 12 GND, 13 S3, 14 S2, 15 ~E, 16 I15, 17 I14, 18 I13, 19 I12, 20 I11, 21 I10, 22 I9, 23 I8, 24 VCC (power)

## CD214A-B340LF
designator D?
DIODE SCHOTTKY 40V 3A SMA
footprint DO-214AC) (Molded Diode, 2-Leads, Body 4,31x2,60mm, IPC Medium Density)
pins: 1 K "Cathode", 2 A "Anode"

## CD1206-S01575
designator D?
small-signal high-speed Switching Diodes   CD1206
footprint MINIMELF
pins: A, C

## CD4021BE
designator U?, comment CMOS 8-STAGE SHIFT REGISTERS
MP: CD4021BE; MF: Texas; Price: None; Availability: Unavailable; Package: DIP-16 Texas
footprint PDIP300-P16 (DIP, 16-Leads, Row Spacing 7.62mm, Pitch 2.54mm, Body 19.2x6.6mm)
pins: 1 P1-8, 2 Q6 (out), 3 Q8 (out), 4 P1-4, 5 P1-3, 6 P1-2, 7 P1-1, 8 VSS, 9 PARALLEL/SERIAL_CONTROL, 10 CLOCK, 11 SERIAL_IN, 12 Q7 (out), 13 P1-5, 14 P1-6, 15 P1-7, 16 VDD (power)

## CD4040BE
designator U?, comment BINARY COUNTER/DIVIDERS
MP: CD4040BE; MF: Texas Instruments; Price: None; Package: PDIP-16 Texas Instruments; Availability: Unavailable
footprint PDIP300-P16 (DIP, 16-Leads, Row Spacing 7.62mm, Pitch 2.54mm, Body 19.2x6.6mm)
pins: 1 Q12 (out), 2 Q6 (out), 3 Q5 (out), 4 Q7 (out), 5 Q4 (out), 6 Q3 (out), 7 Q2 (out), 8 VSS, 9 Q1 (out), 10 INPUT_PULSE, 11 R, 12 Q9 (out), 13 Q8 (out), 14 Q10 (out), 15 Q11 (out), 16 VDD (power)

## CE8301
designator U??
footprint SOT-89-3
pins: 1 VSS, 2 VOUT, 3 LX, 4 TAG

## CHERRY-MX-LED
designator S?
>NAME: S1; >VALUE: CHERRY-MX-LED
footprint CHERRY-MX-LED
pins: A, K C, S1, S2

## Connect Molex 2pins
designator P?, comment Molex 5P
footprint GP2 (Connector; Header; 3 Position)
pins: 1, 2

## Connect Molex 3pins
designator P?
Molex 3pins
footprint GP3 (Connector; Header; 3 Position)
pins: 1, 2, 3

## Connect Molex 4pins
designator P?
footprint GP4-2 (Connector; Header; 4 Position)
pins: 1, 2, 3, 4

## Connect Molex 5pins
designator P?, comment Molex 5P
footprint GP5 (Connector; Header; 5 Position)
pins: 1, 2, 3, 4, 5

## CSTCE16M0V53-R0
designator Y?, comment 16MHz  Supplier Part Number 1: CSTCE16M0V53-R0  Supplier Part Number 2: 2443265
CER RESONATOR 16.0MHZ SMD; Manufacturer: MURATA; Frequency: 16; Frequency Tolerance: ± 0.5%; No. of Pins: 3 Pin; Resonant Impedance: 40; SVHC: No SVHC (17-Dec-2015); Published: 8-Jun-2000; LatestRevisionDate: 17-Jul-2002; LatestRevisionNote: Re-released for DXP Platform.; PackageReference: R38; Publisher: Altium Limited; Supplier 1: Digi-Key; Value: 16MHz; Supplier 2: Farnell; Manufacturer Part Number: CSTCE16M0V53-R0; RoHS: YES; Stock 2: 15492; Pricing 2: 5=0,238, 50=0,197, 250=0,177, 500=0,163, 1500=0,152, 3000=0,144, 15000=0,139, 30000=0,136 (GBP); Frequency Stability: -; Operating Temperature Min: -20; Operating Temperature Max: 80; Oscillator Mounting: SMD; Product Range: -; MSL: MSL 1 - Unlimited; ComponentLink1URL: http://www.farnell.com/datasheets/45562.pdf; ComponentLink1Description: http://www.farnell.com/datasheets/45562.pdf
footprint CSTCE16M0V53-R0 (CER RESONATOR 16.0MHZ SMD)
pins: 1 OSC1, 2 OSC2, 3 OSC1
text: C1; C2

## CV201210-100K
designator L?, comment 10uH
10uH 0805
footprint L0805 (Inducto package 0805)
pins: 1, 2

## D Connector 9
designator J??
Receptacle Assembly, 9 Position, Right Angle; PackageDocument: O; Positions: 9; Published: 15-Jun-2001; LatestRevisionDate: 17-Jul-2002; LatestRevisionNote: Re-released for DXP Platform.; DatasheetDocument: 1-Sep-1999; PackageReference: 788750; Publisher: Altium Limited; Orientation: Right Angle; Gender: Receptacle
footprint DSUB1.385-2H9 (Connector; D Subminiature; 9 Position; Right Angle; Pitch 1.385 mm)
pins: 1, 2, 3, 4, 5, 6, 7, 8, 9, 10 MH1, 11 MH2

## Diode LED
designator D??, comment LED
footprint LED 5MM (LED 5mm)
footprint 598-8210-107F (LED SMD)
footprint LED 5MM - Green (LED 5mm)
footprint LED 5MM - Amarillo (LED 5mm)
footprint LED 0603 (Chip Resistor, 2-Leads, Body 1,60x0,80mm, IPC Medium Density)
pins: 1 A, 2 K

## DIODE-ZENER-BZT52
designator D?, comment BZT52  Supplier Part Number 1: BZT52C5V1S-FDICT-ND
Zener Diode / Production Part - 8199 / 3.4V Zener Voltage; Manufacturer: Diodes Incorporated; Manufacturer Part Number: BZT52C5V1S-7-F; Voltage - Zener (Nom) (Vz): 5.1V; Tolerance: ±6%; Power - Max: 200mW; Impedance (Max) (Zzt): 60 Ohm; Current - Reverse Leakage @ Vr: 2µA @ 2V; Voltage - Forward (Vf) (Max) @ If: 900mV @ 10mA; Supplier 1: Digi-Key; RoHS: RoHS Compliant; Category: Discrete Semiconductor Products; Stock 1: 58422; Pricing 1: 1=0.27, 10=0.221, 100=0.1174, 500=0.07726, 1000=0.05253 (USD); Packaging: Cut Tape (CT); Part Status: Active; Operating Temperature: -65°C ~ 150°C; Mounting Type: Surface Mount; Package / Case: SC-76, SOD-323; Supplier Device Package: SOD-323; ComponentLink1URL: http://www.diodes.com/_files/datasheets/ds30093.pdf; ComponentLink1Description: http://www.diodes.com/_files/datasheets/ds30093.pdf
footprint SOD-323
pins: 1 C, 2 A

## Dpy Red-CC
designator DS??
7.62 mm Black Surface HER 7-Segment Display: CC, RH DP; MinimumIntensity: 360 ucd; Note: IF = 5 mA; Colour: High Efficiency Red (HER); Note: Pins 1 and 6 are redundant Cathodes.; Published: 8-Jun-2000; LatestRevisionDate: 17-Dec-2003; LatestRevisionNote: Schematic revised, PCB Footprint replaced.; DatasheetVersion: 19-Feb-2002; PackageVersion: 19-Feb-2002; PackageReference: LEDDIP-10; Publisher: Altium Limited; ComponentLink1Description: Manufacturer Link; ComponentLink1URL: http://www.agilent.com/
simulation model HDSP_A213 (SUBCKT)
footprint LEDDIP-10/C15.24RHD (LED, 7-Segment Display, 14.2 mm, RHD; 10 Leads; Row Space 15.24 mm; Pitch 2.54 mm)
pins: 1 e "Anode", 2 d "Anode", 3 K "Cathode", 4 c "Anode", 5 DP "Anode", 6 b "Anode", 7 a "Anode", 8 K "Cathode", 9 f "Anode", 10 g "Anode"

## DS1307Z
designator U??
64 X 8 Serial Real-Time Clock; Published: 13-Oct-2000; LatestRevisionDate: 13-Apr-2006; LatestRevisionNote: IPC-7351 Footprint Added.; DatasheetVersion: 10-Aug-1999; PackageVersion: 1999; PackageReference: SOIC8N; Publisher: Altium Limited; PackageDescription: 8-Pin Small Outline Integrated Circuit 1.27 mm Pitch; Code_IPC: SOIC127P600-8; ComponentLink1Description: Manufacturer Link; ComponentLink1URL: http://www.maxim-ic.com/; ComponentLink2Description: Datasheet; ComponentLink2URL: http://pdfserv.maxim-ic.com/en/ds/DS1307.pdf; ComponentLink3Description: Discontinuation Notice; ComponentLink3URL: http://www.maxim-ic.com/qa/pdfs/non-obsolescence-letter.pdf
footprint SOIC127P600X157-8N (SOIC, 8-Leads, Body 5,0x4,0mm (max), Pitch 1,27mm, IPC Medium Density)
footprint PDIP300-P8 (DIP, 8-Leads, Row Spacing 7.62mm, Pitch 2.54mm, Body 9.5x6.6mm)
pins: 1 X1 (in), 2 X2 (in), 3 VBAT (power), 4 GND (power), 5 SDA (io), 6 SCL (in), 7 SQW/OUT (out), 8 VCC (power)

## DW01-P
designator U$?
One Cell Lithium-ion/Polymer Battery Protection IC   The DW01-P battery protection IC is designed to protect lithium-ion/polymer battery from damage or degrading the lifetime due to overcharge, overdischarge, and/or overcurrent for one-cell lithium-ion/polymer battery powered systems, such as cellular phones.   The ultra-small package and less required external components make it ideal to integrate the DW01-P into the limited space of battery pack. The accurate ±50mV overcharging detection voltage ensures safe and full utilization charging. The very low standby current drains little current from the cell while in storage.
footprint SOT23-6L
pins: 1 OD (power), 2 CS, 3 OC (power), 4 TD (out), 5 VCC, 6 GND (out)

## ES01MSABE
designator S?, comment ES02MSABE
Supplier 1: Digi-Key; Supplier Part Number 1: CKN1813TR-ND
footprint ES02MSABE (SWITCH SLIDE SPST 0.4VA 20V)
pins: 1, 2, G1, G2

## ESP8266 ESP_12
designator U?
ESP8266 ESP-12; IC: ESP8266-EX; Vendor: Ai-thinker; LatestReviewer: Zion Blue; Published: 14-Apr-2015; Publisher: Cynetik Group; LatestRevisionData: 14-Apr-2015; LatestRevisionNote: Include 3D body and Footprint
footprint ESP8266 ESP_12 (ESP8266 ESP-12)
pins: 1 ~{RST} "Reset", 2 ADC/TOUT "ADC Input Or TOUT Output", 3 EN "Chip enable", 4 GPIO16/~{WAKE} "GPIO16 or Deep-Sleep Wakeup", 5 GPIO14/HSPICLK "GPIO14 or SPI CLK", 6 GPIO12/HSPIQ "GPIO12 or SPIQ", 7 GPIO13/HSPID/CTS0/RXD2 "GPIO13 or SPID", 8 VDD "Power supply", 9 GND "Power ground", 10 GPIO15/HSPICS/RTS0/TXD2 "GPIO15 or SPICS", 11 GPIO2/TXD1 "GPIO2 or TX", 12 GPIO0/SPICS2 "GPIO0 or SPICS2", 13 GPIO4 "GPIO5", 14 GPIO5 "GPIO4", 15 GPIO3/RXD0 "GPIO3 or UART RXD", 16 GPIO1/SPICS1/TXD0 "GPIO1 or UART TXD"

## FDC6331L
designator U?
FDC6331L
footprint SOT95P284X112-6N (SOT23, 6-Leads, Body 2,92x2,84mm, Pitch 0,95mm, IPC Medium Density)
pins: 1 R2 (power), 2 VOUT, C1, 3 VOUT, C1, 4 VIN, R1, 5 ON/OFF (power), 6 R1, C1 (power)

## FDN306P
designator Q?
P-Channel MOSFET; Published: 8-Jun-2000; LatestRevisionDate: 17-Jul-2002; LatestRevisionNote: Re-released for DXP Platform.; PackageVersion: 1995/1996; PackageReference: E3; Publisher: Altium Limited
footprint SuperSOT-3 (SOT23, 3-Leads, Body 2,98x2,52mm, Pitch 0,95mm, IPC Medium Density)
pins: 1 S, 2 G, 3 D

## FDN339AN
designator Q?
N-Channel MOSFET; Published: 8-Jun-2000; LatestRevisionDate: 17-Jul-2002; LatestRevisionNote: Re-released for DXP Platform.; PackageVersion: 1995/1996; PackageReference: E3; Publisher: Altium Limited
footprint SuperSOT-3 (SOT23, 3-Leads, Body 2,98x2,52mm, Pitch 0,95mm, IPC Medium Density)
pins: 1 D, 2 G, 3 S

## FFC Connector 12Pos Picth 0.5mm
designator J?, comment 1-1734839-2  (value not drawn)
MF: TE Connectivity; MP: 1-1734839-2; Availability: Unavailable; EU_RoHS_Compliance: Compliant; TE_purchase_URL: https://www.te.com/usa-en/product-1-1734839-2.html?te_bu=Cor&te_type=disp&te_campaign=seda_glo_cor-seda-global-disp-prtnr-fy19-seda-model-bom-cta_sma-317_1&elqCampaignId=32493; Package: None; Price: None
footprint TE_1-1734839-2
pins: 1, 2, 3, 4, 5, 6, 7, 8, 9, 10, 11, 12, S SHIELD

## FPC Connector 12-Pos Pitch 1mm
designator J?, comment 1-84952-2  (value not drawn)
Number_of_Positions: 12; Centerline_Pitch: 1 mm[.039 in]; MF: TE Connectivity; Product_Type: Connector; MP: 1-84952-2; Availability: Unavailable; EU_RoHS_Compliance: Compliant; TE_purchase_URL: https://www.te.com/usa-en/product-1-84952-2.html?te_bu=Cor&te_type=disp&te_campaign=seda_glo_cor-seda-global-disp-prtnr-fy19-seda-model-bom-cta_sma-317_1&elqCampaignId=32493; Package: None; Price: None
footprint TE_1-84952-2 (Footprint not found)
pins: 1, 2, 3, 4, 5, 6, 7, 8, 9, 10, 11, 12, S SHIELD

## FS8205A
designator U?
footprint TSSOP8
pins: 1, 2 S, 3 S, 4 G, 5 G, 6 S, 7 S, 8

## FT232BL
designator U?
USB UART Asynchronous Serial Data Transfer Chip, LQFP-32, Pb-Free; Published: 6-Oct-2005; LatestRevisionDate: 13-Apr-2006; LatestRevisionNote: IPC-7351 Footprint Added.; DatasheetVersion: ver 1.7, Feb-2005; PackageVersion: Mar-2004; PackageReference: LQFP-32; Publisher: Altium Limited; PackageDescription: 32-Pin Thin Quad Flat Pack 0.8 mm Pitch; ComponentLink1Description: Manufacturer Link; ComponentLink1URL: http://www.ftdichip.com/Products/FT232BM.htm; ComponentLink2Description: Datasheet; ComponentLink2URL: http://www.ftdichip.com/Documents/DataSheets/ds232bl17.pdf
footprint FTDI (FT232RL ) (SOP, 28-Leads, Body 10.2x5.2mm, Pitch 0.65mm, IPC Low Density)
pins: 1 TXD (out), 2 DTR# (out), 3 RTS# (out), 4 VCCIO (power), 5 RXD (in), 6 RI# (in), 7 GND (power), 8 NONE, 9 DSR# (in), 10 DCD# (in), 11 CTS# (in), 12 CBUS4 (io), 13 CBUS2 (io), 14 CBUS3 (io), 15 USBDP (io), 16 USBDM (io), 17 3V3OUT (power), 18 GND (power), 19 RESET# (in), 20 VCC (power), 21 GND (power), 22 CBUS1 (io), 23 CBUS2 (io), 24 NC, 25 AGND, 26 TEST (in), 27 OSCI (oc), 28 OSCO
text: FT232RL; FTDI

## GLCD Nokia 5110 , 84X48
designator U?, comment Lcd Nokia 5110  (value not drawn)
GLCD Nokia 5110 , 84X48
footprint GLCD Nokia 5110 (lcd graficable de 84X48)
pins: 1 RST, 2 C/E, 3 DC, 4 DIN, 5 CLK, 6 VCC, 7 LED, 8 GND
text: LCD Nokia 5110 84X48

## haeader 10 pins 1.7mm
designator P?, comment header
footprint header 10 pins (headere de 1.7mm)
pins: 1, 2, 3, 4, 5, 6, 7, 8, 9, 10

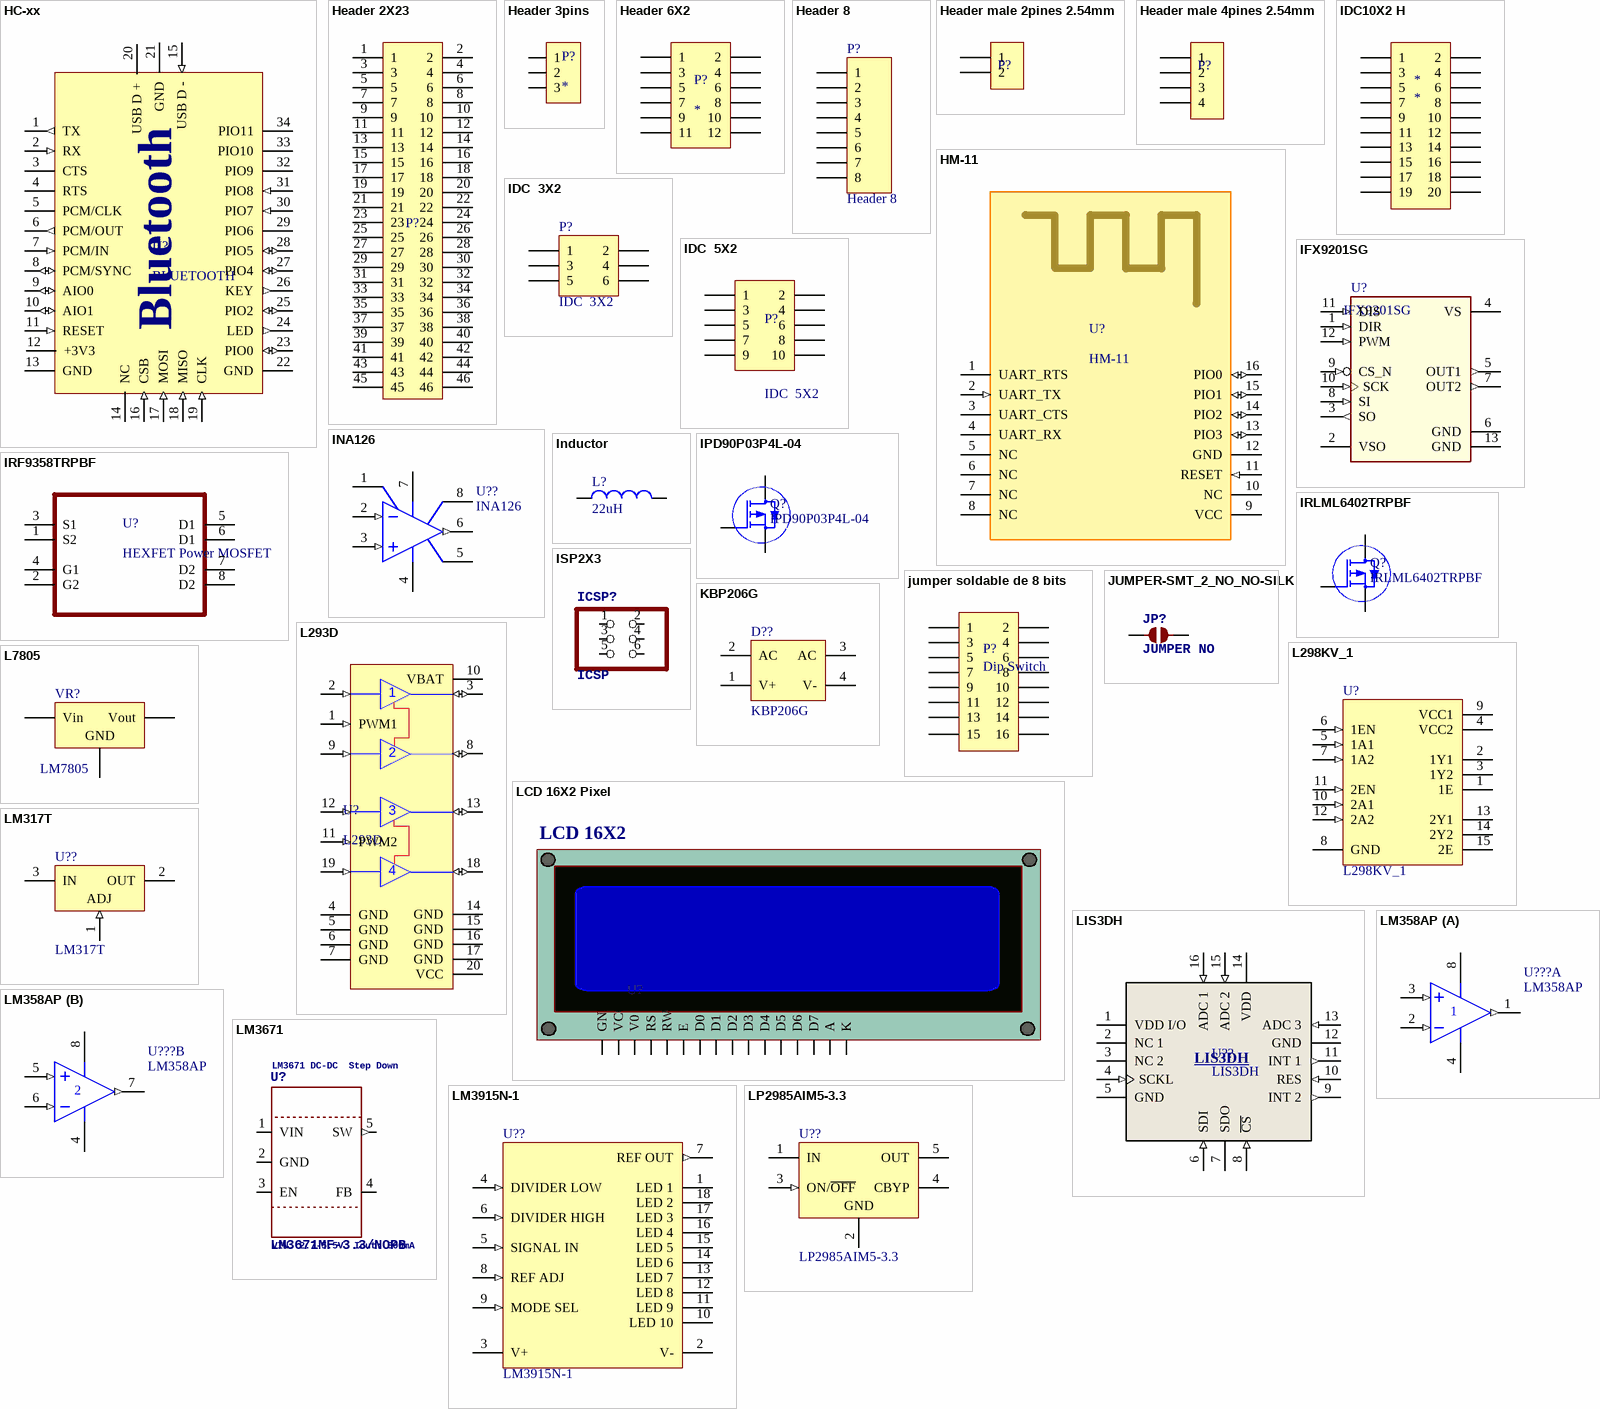
[diagram p3: symbols HC-xx to LP2985AIM5-3.3]

## HC-xx
designator U?, comment BLUETOOTH
Bluetooth UART
footprint HC06
pins: 1 TX (out), 2 RX (in), 3 CTS (hiz), 4 RTS (power), 5 PCM/CLK (hiz), 6 PCM/OUT (out), 7 PCM/IN (in), 8 PCM/SYNC (io), 9 AIO0 (io), 10 AIO1 (io), 11 RESET (in), 12 +3V3 (power), 13 GND (power), 14 NC (hiz), 15 USB D - (in), 16 CSB (in), 17 MOSI (in), 18 MISO (in), 19 CLK (in), 20 USB D + (power), 21 GND (power), 22 GND, 23 PIO0 (io), 24 LED (out), 25 PIO2 (io), 26 KEY (out), 27 PIO4 (io), 28 PIO5 (io), 29 PIO6 (hiz), 30 PIO7 (in), 31 PIO8 (in), 32 PIO9 (hiz), 33 PIO10 (hiz), 34 PIO11 (power)
text: Bluetooth

## Header 2X23
designator P?
Header 23X2   2.54mm
footprint Header   2X23   2.54mm (Connector; Header; 22x2 Position)
pins: 1, 2, 3, 4, 5, 6, 7, 8, 9, 10, 11, 12, 13, 14, 15, 16, 17, 18, 19, 20, 21, 22, 23, 24, 25, 26, 27, 28, 29, 30, 31, 32, 33, 34, 35, 36, 37, 38, 39, 40, 41, 42, 43, 44, 45, 46

## Header 3pins
designator P?
header 3
footprint header 3 horizontal (espadin horizontales de 3 pines)
footprint jumper de 3pins
footprint Jumper small (jumper pequeño azul)
footprint Header 3pins (header 5mm 2.54mm)
footprint Header 3pins Female (header 5mm 2.54mm)
pins: 1, 2, 3

## Header 6X2
designator P?
Header 6X2 2.54mm
footprint Header 6X2 (2.54mm header 12 pines)
pins: 1, 2, 3, 4, 5, 6, 7, 8, 9, 10, 11, 12

## Header 8
designator P?
Header, 8-Pin; LatestRevisionDate: 17-Jul-2002; LatestRevisionNote: Re-released for DXP Platform.; Publisher: Altium Limited
signal-integrity model Connector
footprint Header-1X8 (Header Bar 1x8 pins)
pins: 1, 2, 3, 4, 5, 6, 7, 8

## Header male 2pines 2.54mm
designator P?
footprint HDR1X2 (Connector; Header; 2 Position)
pins: 1, 2

## Header male 4pines 2.54mm
designator P?
footprint HDR1X4 (Connector; Header; 4 Position)
pins: 1, 2, 3, 4

## HM-11
designator U?
Bluetooth 4.0 modo dual módulo Bluetooth UART
footprint HM-11
pins: 1 UART_RTS, 2 UART_TX (in), 3 UART_CTS (hiz), 4 UART_RX (power), 5 NC (hiz), 6 NC, 7 NC, 8 NC, 9 VCC (power), 10 NC, 11 RESET (in), 12 GND, 13 PIO3 (io), 14 PIO2 (io), 15 PIO1 (io), 16 PIO0 (io)

## IDC10X2 H
designator *
footprint IDC10X2
footprint IDC10X2 Horizontal
pins: 1, 2, 3, 4, 5, 6, 7, 8, 9, 10, 11, 12, 13, 14, 15, 16, 17, 18, 19, 20

## IDC  3X2
designator P?
Header, 3-Pin, Dual row; LatestRevisionDate: 17-Jul-2002; LatestRevisionNote: Re-released for DXP Platform.; Publisher: Altium Limited
footprint IDC 3X2 (CONECTOR IDC DE 3X2 2.54mm Header)
footprint IDC3X2 acostado (Conectir IDC acostado)
footprint HDR2X3H (Connector; Header; 3x2 Position; Right Angle)
pins: 1, 2, 3, 4, 5, 6

## IDC  5X2
designator P?
Header, 5-Pin, Dual row; LatestRevisionDate: 17-Jul-2002; LatestRevisionNote: Re-released for DXP Platform.; Publisher: Altium Limited
footprint IDC5X2
pins: 1, 2, 3, 4, 5, 6, 7, 8, 9, 10

## IFX9201SG
designator U?
6 A H-Bridge with SPI; Manufacturer: Infineon Technologies; ManufacturerPartNumber: IFX9201SG; PackageReference: PG-DSO-12-17
footprint PG-DSO-12-17 (SOP 12)
pins: 1 DIR (in) "Direction input to define direction of the motor current", 2 VSO (power) "Supply pin for SO output. Connect to 5V or 3.3V depending on desired logic level", 3 SO (out) "SPI serial output", 4 VS (power) "Supply voltage", 5 OUT1 (out) "Output 1", 6 GND (power) "Ground", 7 OUT2 (out) "Output 2", 8 SI (in) "SPI serial input", 9 CS_N (in) "SPI chip select (low active)", 10 SCK (in) "SPI clock input", 11 DIS (in) "Disable. Disables the outputs (all MOSFETS off)", 12 PWM (in) "Pulse width modulation input", 13 GND (power) "heat slug (GND)"

## INA126
designator U??
Instrumentation Operational Amplifier; Manufacturer: Texas Instruments; Manufacturer Part Number: INA126EA/250; Number of Circuits: 1; Slew Rate: 0.4 V/µs; -3db Bandwidth: 200kHz; Current - Input Bias: 10nA; Voltage - Input Offset: 150µV; Current - Supply: 175µA; Current - Output / Channel: 10mA; Voltage - Supply, Single/Dual (±): 2.7 V ~ 36 V, ±1.35 V ~ 18 V; Supplier 1: Digi-Key; RoHS: RoHS Compliant; Category: Integrated Circuits (ICs); Stock 1: 250; Pricing 1: 250=2.368, 500=2.1248, 1250=1.792, 2500=1.7024, 6250=1.6384, 12500=1.6 (USD); Packaging: Tape & Reel (TR); Amplifier Type: Instrumentation; Output Type: -; Gain Bandwidth Product: -; Operating Temperature: -40°C ~ 85°C; Mounting Type: Surface Mount; Package / Case: 8-TSSOP, 8-MSOP (0.118", 3.00mm Width); Supplier Device Package: 8-VSSOP; ComponentLink1URL: http://www.ti.com/lit/ds/symlink/ina126.pdf; ComponentLink1Description: http://www.ti.com/lit/ds/symlink/ina126.pdf; Supplier Part Number 1: INA126EATR-ND
pins: 1 BAL1/CMPEN, 2 IN- (in), 3 IN+ (in), 4 V- (power), 5 BAL2, 6 OUT (out), 7 V+ (power), 8 NC